# EAGLE library part TCA9517DGKRQ1 (library TCA9517DGKRQ1)
Automotive, Level-Shifting I2C Bus Repeater Source: Datasheet <http://www.ti.com/lit/gpn/tca9517-q1>
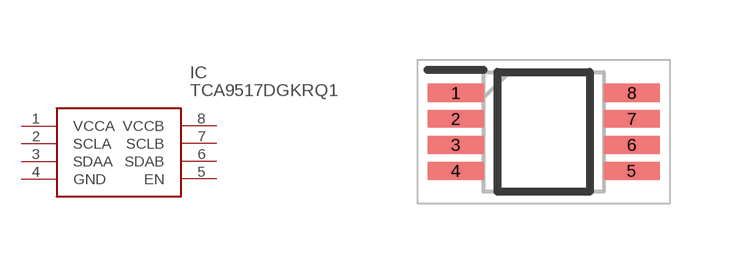
[diagram p0: symbol with the pads of SOP65P490X110-8N; footprint SOP65P490X110-8N]

Designator prefix IC

## TCA9517DGKRQ1 (Description: Automotive, Level-Shifting I2C Bus Repeater; Height: 1.1mm; Manufacturer_Name: Texas Instruments; Manufacturer_Part_Number: TCA9517DGKRQ1; Mouser_Part_Number: 595-TCA9517DGKRQ1; Mouser_Price-Stock: https://www.mouser.co.uk/ProductDetail/Texas-Instruments/TCA9517DGKRQ1?qs=%252BEew9%252B0nqrBZmTVyzm%252B7dQ%3D%3D)  [SOP65P490X110-8N]
1  VCCA
2  SCLA
3  SDAA
4  GND
5  EN
6  SDAB
7  SCLB
8  VCCB

## Footprint SOP65P490X110-8N (pad centres in mm)
DGK (S-PDSO-G8)
smd 1.4 x 0.45: 1 -2.2,0.975; 2 -2.2,0.325; 3 -2.2,-0.325; 4 -2.2,-0.975; 5 2.2,-0.975; 6 2.2,-0.325; 7 2.2,0.325; 8 2.2,0.975